# Altium footprint library motor.PcbLib: 2 footprints
Each footprint in its own frame and in the unit in brackets; x right, y up, seen from the top. Pads: shape width x height; smd on the part's side, far side on the other; paste and mask are expansions set on the pad; w line width, h text height; cw(c..) or ccw(c..) is an arc to the next point about the centre after c.
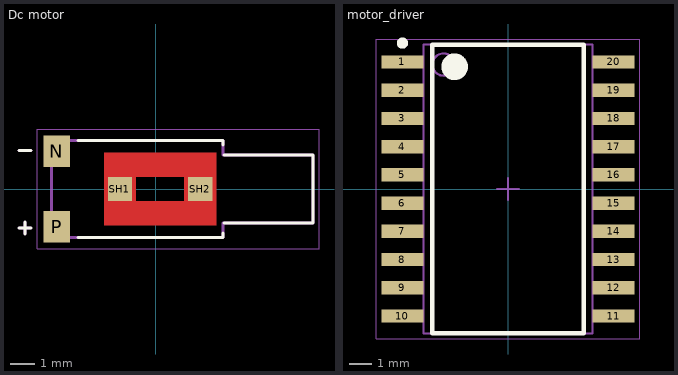
[diagram p0: the footprints below, top view; thin cyan lines are the x and y axes]

## Dc motor [mm] "SMD HD MOTOR 3VDC 15000RPM,DC Motor Vibration, ERM 15000 RPM 2.7VDC"
pads (4):
  rect 1.1x1.3 smd: N(-4.067,1.55) P(-4.067,-1.55)
  rect 1x1 smd paste-1 mask+0: SH1(-1.467,0) SH2(1.833,0)
Top Layer:
  region: 0.183,0.5 -0.817,0.5 -0.817,-0.5 0.183,-0.5 0.183,-1.5 -2.117,-1.5 -2.117,1.5 0.183,1.5
  region: 2.483,-1.5 0.183,-1.5 0.183,-0.5 1.183,-0.5 1.183,0.5 0.183,0.5 0.183,1.5 2.483,1.5
Top Overlay:
  lines w0.127: -5.617,-1.6 -5.117,-1.6 ; -5.617,1.575 -5.117,1.575 ; -5.367,-1.85 -5.367,-1.35 ; -3.197,-2 2.763,-2 2.763,-1.82 ; -3.197,2 2.763,2 2.763,1.82 ; 2.803,-1.4 6.463,-1.4 6.463,1.4 2.803,1.4
Top Paste:
  region: 0.183,0.5 -0.817,0.5 -0.817,-0.5 0.183,-0.5 0.183,-1.5 -2.117,-1.5 -2.117,1.5 0.183,1.5
  region: 2.483,-1.5 0.183,-1.5 0.183,-0.5 1.183,-0.5 1.183,0.5 0.183,0.5 0.183,1.5 2.483,1.5
Top Solder:
  region: 0.183,0.4 -0.717,0.4 -0.717,-0.4 0.183,-0.4 0.183,-1.6 -2.217,-1.6 -2.217,1.6 0.183,1.6
  region: 2.597,-1.651 0.197,-1.651 0.197,-0.451 1.097,-0.451 1.097,0.349 0.197,0.349 0.197,1.549 2.597,1.549
Mechanical 13:
  lines w0.127: -5.617,-1.6 -5.117,-1.6 ; -5.617,1.575 -5.117,1.575 ; -5.367,-1.85 -5.367,-1.35 ; -4.287,-2 2.763,-2 2.763,-1.4 6.463,-1.4 6.463,1.4 2.763,1.4 2.763,2 -4.287,2 -4.287,-2
Mechanical 15:
  lines w0.05: -4.867,-2.45 -4.867,2.45 6.713,2.45 6.713,-2.45 -4.867,-2.45
3D body "step_temp.STEP": height -0.07, standoff -3.07, extent -4.602,-2 6.198,2

## motor_driver [mm] "IC MTR DRV BIPOLR 4.5-36V 20SOIC, Bipolar Motor Driver Parallel 20-SO"
height 2.65
pads (20):
  rect 1.9x0.6 smd: 1(-4.75,5.715) 2(-4.75,4.445) 3(-4.75,3.175) 4(-4.75,1.905) 5(-4.75,0.635) 6(-4.75,-0.635) 7(-4.75,-1.905) 8(-4.75,-3.175) 9(-4.75,-4.445) 10(-4.75,-5.715) 11(4.75,-5.715) 12(4.75,-4.445) 13(4.75,-3.175) 14(4.75,-1.905) 15(4.75,-0.635) 16(4.75,0.635) 17(4.75,1.905) 18(4.75,3.175) 19(4.75,4.445) 20(4.75,5.715)
Top Overlay:
  circle w0.25: c-4.75,6.565 r0.125
  circle w0.6: c-2.4,5.5 r0.3
  lines w0.2: -3.4,-6.5 -3.4,6.5 3.4,6.5 3.4,-6.5 -3.4,-6.5
Mechanical 1:
  text "U?" at -9.017,3.302 h1.52
Mechanical 13:
  circle w0.1: c-2.9,5.6 r0.5
  lines w0.1: -3.8,-6.5 -3.8,6.5 3.8,6.5 3.8,-6.5 -3.8,-6.5
Mechanical 15:
  lines w0.05: -5.925,-6.75 -5.925,6.75 5.925,6.75 5.925,-6.75 -5.925,-6.75
  lines w0.1: -0.5,0 0.5,0 ; 0,-0.5 0,0.5
3D body: height 2.65, standoff 0.1, extent -3.8,-6.5 3.8,6.5
3D body "SO-20_STM.step": height 2.64, standoff 0, extent -5.321,-6.502 5.321,6.502